# Altium schematic symbol library EthernetConnectors.SchLib: 14 symbols
Pins are listed as number, name and electrical type; pins without a type are passive.

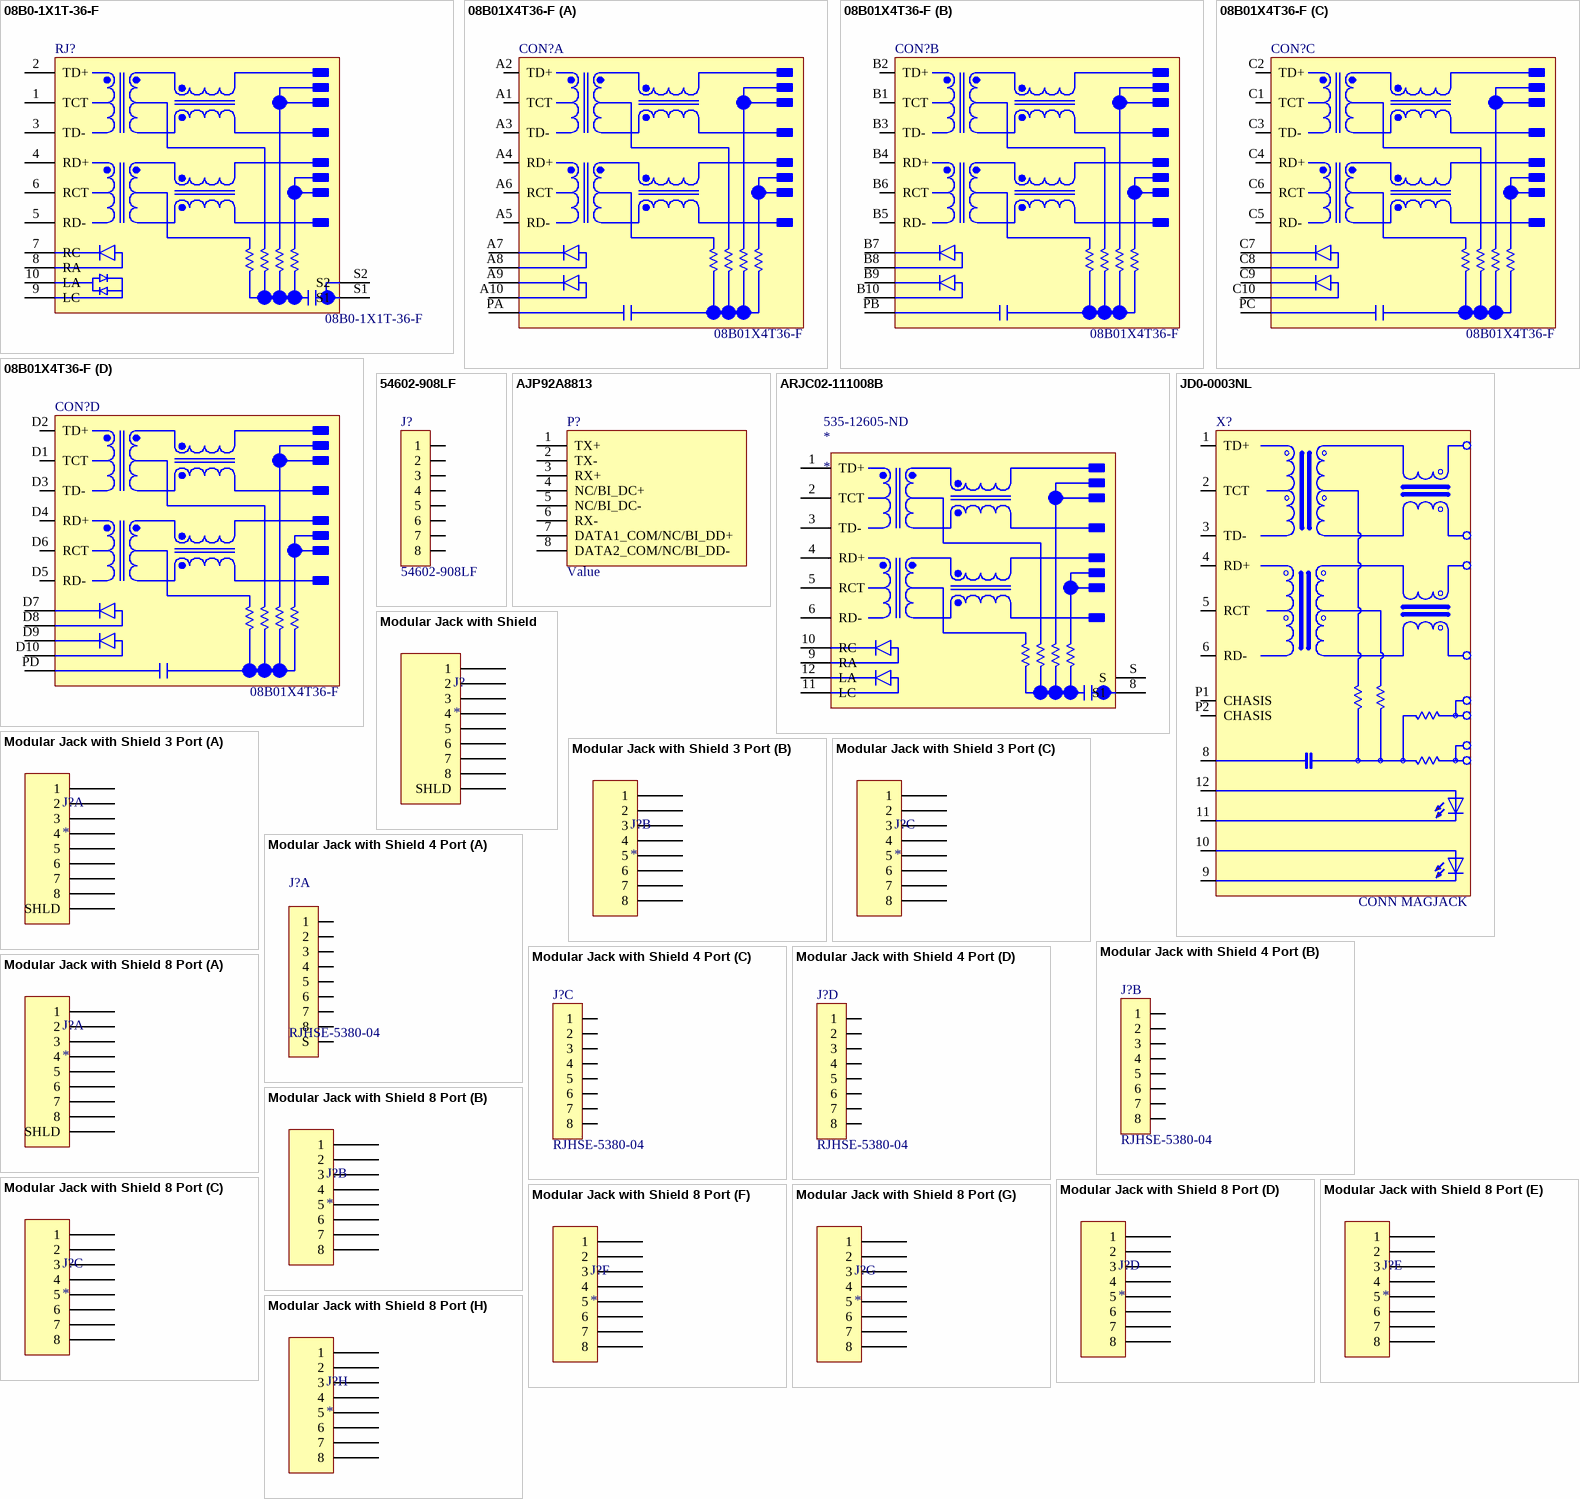
[diagram p0: symbols 08B0-1X1T-36-F to Modular Jack with Shield 8 Port]

## 08B0-1X1T-36-F
designator RJ?
CONN MAGJACK 1PORT 100 BASE-T; Manuf1: Bel Fuse Inc.; Populated: Yes; Manuf1Partnumber: 08B0-1X1T-36-F; Value: 08B0-1X1T-36-F; ROHS: Yes; LifeCycle: Checked; ClassName: *; Code_JEDEC: *; HelpURL: *; Supplier 1: Digi-Key; Supplier 2: Arrow; Supplier Part Number 1: 507-1446-ND
footprint 08B0-1X1T-36-F (RJ45-ETHERNET-MAGNETICS)
pins: 1 TCT, 2 TD+, 3 TD-, 4 RD+, 5 RD-, 6 RCT, 7 RC, 8 RA, 9 LC, 10 LA, S1, S2

## 08B01X4T36-F
designator CON?
CONN MAGJACK 4PORT 100 BASE-T; Manuf1: Bel Fuse Inc.; Populated: Yes; Value: 08B01X4T36-F; Manuf1Partnumber: 08B01X4T36-F; ROHS: Yes; ClassName: *; Code_JEDEC: *; HelpURL: *; LifeCycle: Checked; Supplier 1: Digi-Key; Supplier Part Number 1: 507-1447-ND
footprint 08B0-1X4T-36-F (TERM_BLOCK_8POS_H)
part A pins: A1 TCT, A2 TD+, A3 TD-, A4 RD+, A5 RD-, A6 RCT, A7 AMA-K, A8 AMA-A, A9 VERDE-K, A10 VERDE-A, PA SHIELD
part B pins: B1 TCT, B2 TD+, B3 TD-, B4 RD+, B5 RD-, B6 RCT, B7 AMA-K, B8 AMA-A, B9 VERDE-K, B10 VERDE-A, PB SHIELD
part C pins: C1 TCT, C2 TD+, C3 TD-, C4 RD+, C5 RD-, C6 RCT, C7 AMA-K, C8 AMA-A, C9 VERDE-K, C10 VERDE-A, PC SHIELD
part D pins: D1 TCT, D2 TD+, D3 TD-, D4 RD+, D5 RD-, D6 RCT, D7 AMA-K, D8 AMA-A, D9 VERDE-K, D10 VERDE-A, PD SHIELD

## 54602-908LF
designator J?
CONN MOD JACK 8P8C R/A UNSHLD; Manufacturer: Amphenol FCI; Number of Ports: 1; Number of Contacts: 8; Shielding: Unshielded; Current Rating: 1A; Voltage Rating: 1kV; Contact Resistance: 20mR; Connector Type: RJ45,Jack; Direction: Down; Insulation Resistance: 500MR; Gender: Female; Pitch: 2.54mm; Supplier 1: Digi-Key; Supplier Part Number 1: 609-1046-ND; Manufacturer Part Number: 54602-908LF; Stock 1: 35602; Pricing 1: 1=0.6, 10=0.563, 25=0.5072, 50=0.4508, 100=0.4319, 250=0.3944, 500=0.3756, 1000=0.30987, 2500=0.2817 (USD); Mount: Through Hole; Contact Plating: Nickel,Gold; Contact Material: Bronze,Copper,Copper Alloy; Colour: Black; Housing Colour: Black; Housing Material: Polyester; Min Operating Temperature: -40°C; Max Operating Temperature: 70°C; Termination: Through Hole; Orientation: Right Angle; Packaging: Bulk; Package Quantity: 200; Number of Rows: 1; Number of Positions: 8; Number of Positions Loaded: 8; Length: 15.3mm; Width: 15.3mm; Depth: 17.74mm; Radiation Hardening: No; REACH SVHC: No SVHC; Lead Free: Lead Free; Flammability Rating: UL94 V-0; ComponentLink1URL: https://datasheet.ciiva.com/7629/1637015-7629184.pdf; ComponentLink1Description: https://datasheet.ciiva.com/7629/1637015-7629184.pdf; ComponentLink2URL: https://datasheet.ciiva.com/16945/70236834-16945799.pdf; ComponentLink2Description: https://datasheet.ciiva.com/16945/70236834-16945799.pdf; ComponentLink3URL: https://datasheet.ciiva.com/685/c-bmj-0102-685432.pdf; ComponentLink3Description: https://datasheet.ciiva.com/685/c-bmj-0102-685432.pdf; ComponentLink4URL: https://datasheet.ciiva.com/15170/getdatasheetpartid-177828-15170746.pdf; ComponentLink4Description: https://datasheet.ciiva.com/15170/getdatasheetpartid-177828-15170746.pdf; Value: 54602-908LF
pins: 1, 2, 3, 4, 5, 6, 7, 8

## AJP92A8813
designator P?, comment Value
RJ45, AJP92A Series, Plug, 8 Contacts, 8 Positions, 1 Ports; Manuf1: METZ CONNECT; Value: AJP92A8813; Populated: Yes; HelpURL: https://www.metz-connect.com/us/products/ajp92a8813; LifeCycle: Checked; Manuf1Partnumber: AJP92A8813; Manufacturer: METZ CONNECT; Manufacturer Part Number: AJP92A8813; PackageReference: RJ45 Male(Plug); ROHS: Yes; Supplier 1: Newark; Supplier Part Number 1: 84X9704
footprint AJP92A8813
pins: 1 TX+, 2 TX-, 3 RX+, 4 NC/BI_DC+, 5 NC/BI_DC-, 6 RX-, 7 DATA1_COM/NC/BI_DD+, 8 DATA2_COM/NC/BI_DD-

## ARJC02-111008B
designator *  Supplier Part Number 1: 535-12605-ND
CONN MAGJACK 1PORT 100 BASE-TX; Manufacturer: Abracon LLC; Manufacturer Part Number: ARJC02-111008B; Connector Type: RJ45; Number of Ports: 1; LED Color: Yellow - Green; Number of Cores per Jack: 4; Shielding: Shielded, EMI Finger; Tab Direction: Down; Populated: Yes; Supplier 1: Digi-Key; RoHS: Yes; Category: Connectors, Interconnects; Stock 1: 1617; Pricing 1: 1=2.67, 10=2.426, 25=2.2772, 50=2.178, 100=2.079, 250=1.881, 500=1.7325, 1000=1.485, 2500=1.386 (USD); Packaging: Tray; Part Status: Active; Number of Rows: 1; Applications: 10/100 Base-TX, AutoMDIX; Mounting Type: Through Hole; Orientation: 90° Angle (Right); Termination: Solder; Height Above Board: 0.534" (13.55mm); Features: Board Guide; Contact Material: -; Contact Finish: -; Contact Finish Thickness: -; Shield Material: -; Housing Material: -; Operating Temperature: 0°C ~ 70°C; ComponentLink1URL: http://www.abracon.com/Magnetics/lan/ARJC02-111008B.PDF; ComponentLink1Description: http://www.abracon.com/Magnetics/lan/ARJC02-111008B.PDF; LifeCycle: Checked
footprint Abracon ARJC02-111008B
pins: 1 TD+, 2 TCT, 3 TD-, 4 RD+, 5 RCT, 6 RD-, 8 S1, 9 RA, 10 RC, 11 LC, 12 LA, S

## JD0-0003NL
designator X?, comment CONN MAGJACK
Populated: Yes; Supplier 1: Digi-Key; Supplier Part Number 1: 553-2604-ND; RoHS: Yes; ComponentLink1URL: http://productfinder.pulseeng.com/products/datasheets/JD0-0003NL.pdf; ComponentLink1Description: http://productfinder.pulseeng.com/products/datasheets/JD0-0003NL.pdf; LifeCycle: Checked
footprint JD0-003NL
pins: 1 TD+, 2 TCT, 3 TD-, 4 RD+, 5 RCT, 6 RD-, 8, 9 C-L, 10 A-L, 11 C-R, 12 A-R, P1 CHASIS, P2 CHASIS

## Modular Jack with Shield
designator J?
Populated: Yes; LifeCycle: Checked; ROHS: Yes
pins: 1, 2, 3, 4, 5, 6, 7, 8, S SHLD

## Modular Jack with Shield 3 Port
designator J?
Populated: Yes; LifeCycle: Checked; ROHS: Yes
part A pins: A1 1, A2 2, A3 3, A4 4, A5 5, A6 6, A7 7, A8 8, S SHLD
part B pins: B1 1, B2 2, B3 3, B4 4, B5 5, B6 6, B7 7, B8 8
part C pins: C1 1, C2 2, C3 3, C4 4, C5 5, C6 6, C7 7, C8 8

## Modular Jack with Shield 4 Port
designator J?, comment RJHSE-5380-04
CONN MOD JACK 8P8C R/A SHIELDED; Manuf1: Amphenol Commercial Products; Populated: Yes; Supplier 1: Digi-Key; Supplier Part Number 1: RJHSE538004-ND; Value: RJHSE-5380-04; LifeCycle: Checked; Manuf1Partnumber: RJHSE-5380-04; ROHS: Yes
footprint AMPHENOL RJHSE-5380-04
part A pins: A1 1, A2 2, A3 3, A4 4, A5 5, A6 6, A7 7, A8 8, S
part B pins: B1 1, B2 2, B3 3, B4 4, B5 5, B6 6, B7 7, B8 8
part C pins: C1 1, C2 2, C3 3, C4 4, C5 5, C6 6, C7 7, C8 8
part D pins: D1 1, D2 2, D3 3, D4 4, D5 5, D6 6, D7 7, D8 8

## Modular Jack with Shield 8 Port
designator J?
Populated: Yes; LifeCycle: Checked; ROHS: Yes
part A pins: A1 1, A2 2, A3 3, A4 4, A5 5, A6 6, A7 7, A8 8, S SHLD
part B pins: B1 1, B2 2, B3 3, B4 4, B5 5, B6 6, B7 7, B8 8
part C pins: C1 1, C2 2, C3 3, C4 4, C5 5, C6 6, C7 7, C8 8
part D pins: D1 1, D2 2, D3 3, D4 4, D5 5, D6 6, D7 7, D8 8
part E pins: E1 1, E2 2, E3 3, E4 4, E5 5, E6 6, E7 7, E8 8
part F pins: F1 1, F2 2, F3 3, F4 4, F5 5, F6 6, F7 7, F8 8
part G pins: G1 1, G2 2, G3 3, G4 4, G5 5, G6 6, G7 7, G8 8
part H pins: H1 1, H2 2, H3 3, H4 4, H5 5, H6 6, H7 7, H8 8

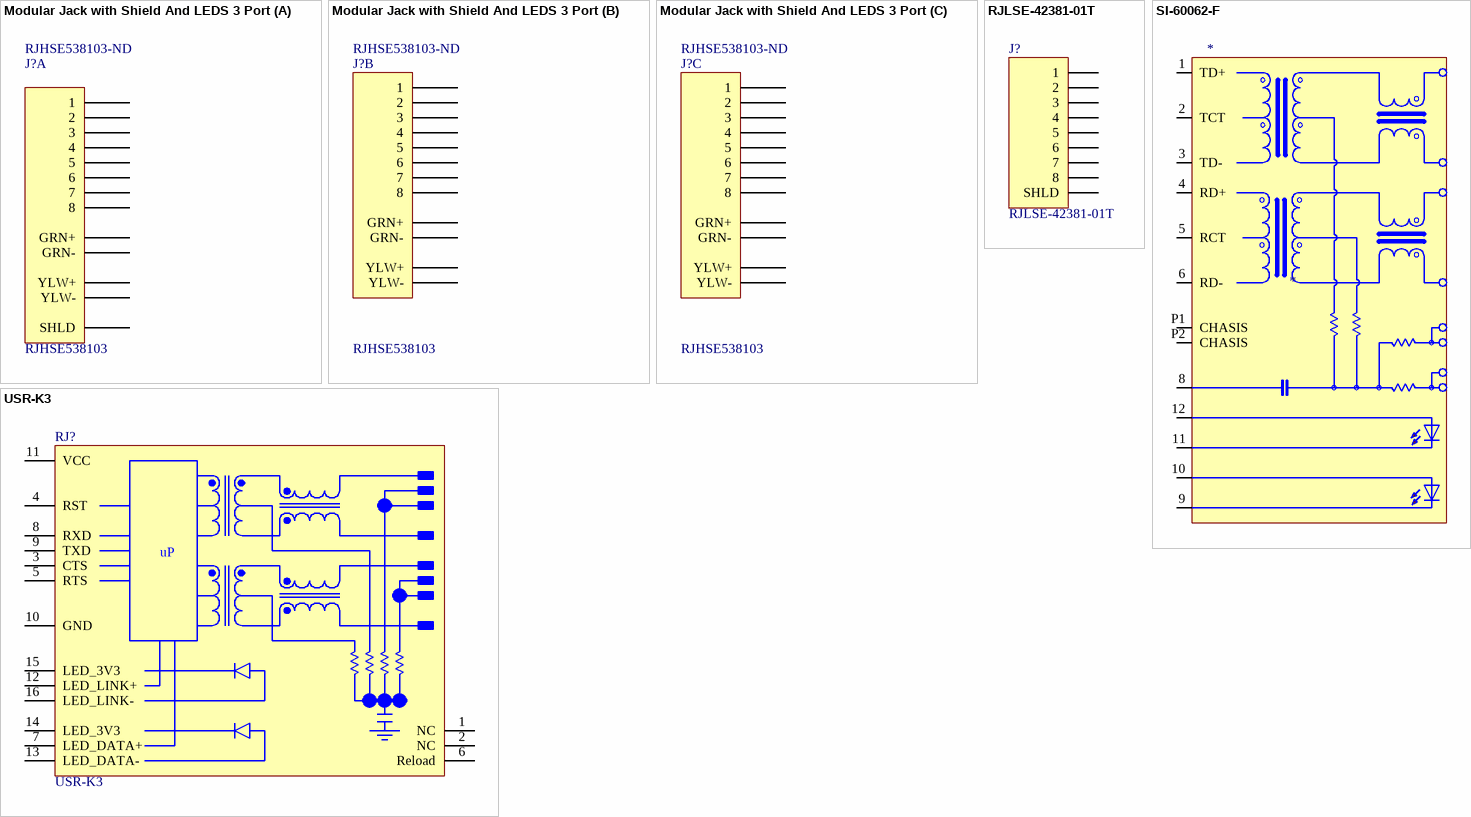
[diagram p1: symbols Modular Jack with Shield And LEDS 3 Port to USR-K3]

## Modular Jack with Shield And LEDS 3 Port
designator J?, comment RJHSE538103  Supplier Part Number 1: RJHSE538103-ND
CONN MOD JACK 8P8C R/A SHIELDED; Manuf1: Amphenol Commercial Products; Populated: Yes; Value: RJHSE538103; Supplier 1: Digi-Key; LifeCycle: Checked; Manuf1Partnumber: RJHSE538103; ROHS: Yes
footprint AMPHENOL RJHSE-538X-03
part A pins: A1 1, A2 2, A3 3, A4 4, A5 5, A6 6, A7 7, A8 8, A9 GRN-, A10 GRN+, A11 YLW-, A12 YLW+, S SHLD
part B pins: B1 1, B2 2, B3 3, B4 4, B5 5, B6 6, B7 7, B8 8, B9 GRN-, B10 GRN+, B11 YLW-, B12 YLW+
part C pins: C1 1, C2 2, C3 3, C4 4, C5 5, C6 6, C7 7, C8 8, C9 GRN-, C10 GRN+, C11 YLW-, C12 YLW+

## RJLSE-42381-01T
designator J?
CONN MOD JACK 8P8C R/A SHIELDED; Manufacturer: Amphenol Commercial; Number of Ports: 1; Direction: Down; Number of Positions Loaded: 8; Connector Type: RJ45,Jack; Gender: Male; Pitch: 1.27mm; Supplier 1: Digi-Key; Supplier Part Number 1: RJLSE4238101TDKR-ND; Manufacturer Part Number: RJLSE-42381-01T; Stock 1: 4222; Pricing 1: 1=1.52, 10=1.383, 25=1.298, 50=1.2414 (USD); Mount: Surface Mount; Contact Material: Bronze; Contact Plating: Nickel,Gold; Colour: Black; Housing Colour: Black; Housing Material: Thermoplastic; Min Operating Temperature: -55°C; Max Operating Temperature: 85°C; Package Quantity: 1; Packaging: Tape and Reel; Shielding: Shielded; Number of Rows: 1; Termination: SMD/SMT; Orientation: Right Angle; Number of Contacts: 8; Length: 15.74mm; Depth: 17.53mm; REACH SVHC: Unknown; Flammability Rating: UL94 V-3; ComponentLink1URL: https://datasheet.ciiva.com/685/rjlse-bro-685560.pdf; ComponentLink1Description: https://datasheet.ciiva.com/685/rjlse-bro-685560.pdf; Value: RJLSE-42381-01T
footprint Amphenol RJLSE4238101T (Surface mount modular jack with shield)
pins: 1, 2, 3, 4, 5, 6, 7, 8, S SHLD

## SI-60062-F
designator *
CONN MAGJACK 1PORT 100 BASE-T; Manufacturer: Bel; Manufacturer Part Number: SI-60062-F; Shielding: Shielded; Connector Type: RJ45,Socket; Number of Ports: 1; Direction: Down; Number of Positions Loaded: 8; Number of Cores per Jack: 4; Gender: Female; Pitch: 2.54mm; Supplier 1: Digi-Key; Stock 1: 9089; Pricing 1: 1=4.35, 10=4.176, 25=3.828, 50=3.654, 100=3.48, 250=3.045, 500=2.958, 1000=2.523, 2500=2.349 (USD); Mount: Through Hole; Case/Package: Metal; Contact Material: Gold,Copper Alloy; Contact Plating: Gold; Colour: Green,Yellow,Silver; Housing Material: Thermoplastic; Min Operating Temperature: 0°C; Max Operating Temperature: 70°C; Packaging: Tray; Package Quantity: 50; Number of Rows: 1; Termination: Solder; Orientation: Right Angle; Number of Contacts: 8; Number of Positions: 8; Length: 17.98mm; Depth: 21.59mm; Width: 17.98mm; REACH SVHC: No SVHC; Lead Free: Lead Free; ComponentLink1URL: https://datasheet.ciiva.com/687/si-60062-f-687803.pdf; ComponentLink1Description: https://datasheet.ciiva.com/687/si-60062-f-687803.pdf; ComponentLink2URL: https://datasheet.ciiva.com/26360/24-0488-26360800.pdf; ComponentLink2Description: https://datasheet.ciiva.com/26360/24-0488-26360800.pdf; ComponentLink3URL: https://datasheet.ciiva.com/11726/0900766b81002b99-11726263.pdf; ComponentLink3Description: https://datasheet.ciiva.com/11726/0900766b81002b99-11726263.pdf; ComponentLink4URL: https://datasheet.ciiva.com/8042/1523782-8042508.pdf; ComponentLink4Description: https://datasheet.ciiva.com/8042/1523782-8042508.pdf; ComponentLink5URL: https://datasheet.ciiva.com/41445/001196185-da-01-en-magjack-1xrj45-mit-leds-41445639.pdf; ComponentLink5Description: https://datasheet.ciiva.com/41445/001196185-da-01-en-magjack-1xrj45-mit-leds-41445639.pdf; Supplier Part Number 1: 380-1106-ND
footprint SI-60062-F
pins: 1 TD+, 2 TCT, 3 TD-, 4 RD+, 5 RCT, 6 RD-, 8, 9 C-L, 10 A-L, 11 C-R, 12 A-R, P1 CHASIS, P2 CHASIS

## USR-K3
designator RJ?
Industrial Super Lan Port Serial TTL UART to Ethernet Module; Manuf1Partnumber: 08B0-1X1T-36-F; Manuf1: Bel Fuse Inc.; Populated: Yes; Value: USR-K3; ROHS: Yes; LifeCycle: Checked; ClassName: *; Code_JEDEC: *; HelpURL: *; Supplier Part Number 1: USR-K3; Supplier 1: http://en.usr.cn
footprint USR-K
pins: 1 NC, 2 NC, 3 CTS, 4 RST, 5 RTS, 6 Reload, 7 LED_DATA+, 8 RXD, 9 TXD, 10 GND, 11 VCC, 12 LED_LINK+, 13 LED_DATA-, 14 LED_3V3, 15 LED_3V3, 16 LED_LINK-
text: uP